# EAGLE library part IR2104 (library Fugu_LSI)
high voltage, high speed power MOSFET and IGBT drivers.
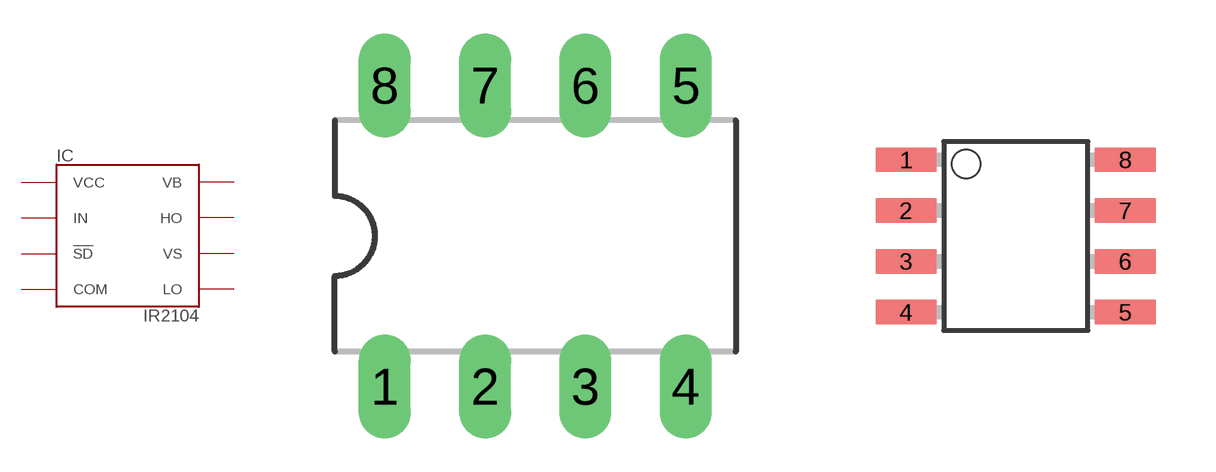
[diagram p30: symbol with the pads of DIL08; footprints DIL08, SO-8]

Designator prefix IC

## IR2104  [DIL08]
1  VCC
2  IN
3  !SD
4  COM
5  LO
6  VS
7  HO
8  VB

## IR2104S  [SO-8]
Pads as for DIL08

## Footprint DIL08 (pad centres in mm)
Dual In Line Package
drill 0.813 long: 1 -3.81,-3.81; 2 -1.27,-3.81; 3 1.27,-3.81; 4 3.81,-3.81; 5 3.81,3.81; 6 1.27,3.81; 7 -1.27,3.81; 8 -3.81,3.81

## Footprint SO-8 (pad centres in mm)
SO 8 small outline
smd 1.524 x 0.61: 1 -2.743,1.905; 2 -2.743,0.635; 3 -2.743,-0.635; 4 -2.743,-1.905; 5 2.743,-1.905; 6 2.743,-0.635; 7 2.743,0.635; 8 2.743,1.905